# Altium footprint library CSS0575ASMTTR.PcbLib: 1 footprints
Each footprint in its own frame and in the unit in brackets; x right, y up, seen from the top. Pads: shape width x height; smd on the part's side, far side on the other; paste and mask are expansions set on the pad; w line width, h text height; cw(c..) or ccw(c..) is an arc to the next point about the centre after c.
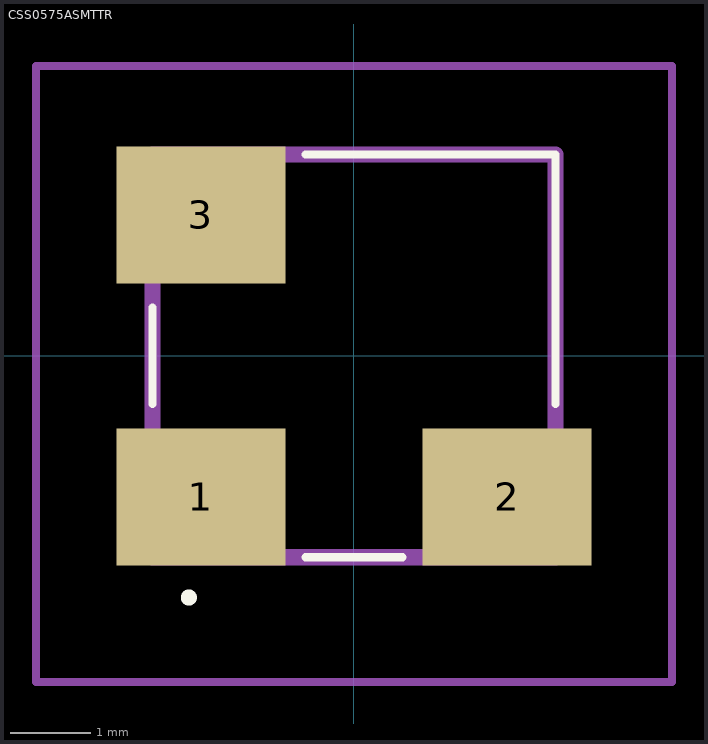
[diagram p0: the footprint, top view; thin cyan lines are the x and y axes]

## CSS0575ASMTTR [mm]
pads (3):
  rect 2.1x1.7 smd: 1(-1.9,-1.75) 2(1.9,-1.75) 3(-1.9,1.75)
Top Overlay:
  lines w0.1: -2.5,-0.6 -2.5,0.6 ; -0.6,-2.5 0.6,-2.5 ; -0.6,2.5 2.5,2.5 2.5,-0.6 ; -2.1,-3 cw(c-2.05,-3) -2,-3 ; -2.1,-3 -2.1,-3 ; -2.1,-3 ccw(c-2.05,-3) -2,-3 ; -2,-3 -2,-3
Mechanical 15:
  lines w0.2: -2.5,-2.5 2.5,-2.5 2.5,2.5 -2.5,2.5 -2.5,-2.5
Mechanical 20:
  lines w0.1: -3.95,-4.05 3.95,-4.05 3.95,3.6 -3.95,3.6 -3.95,-4.05